# Altium footprint library PCB - CONNECTOR - HARWIN - HARWIN M20-7831345.PcbLib: 1 footprints
Each footprint in its own frame and in the unit in brackets; x right, y up, seen from the top. Pads: shape width x height; smd on the part's side, far side on the other; paste and mask are expansions set on the pad; w line width, h text height; cw(c..) or ccw(c..) is an arc to the next point about the centre after c.
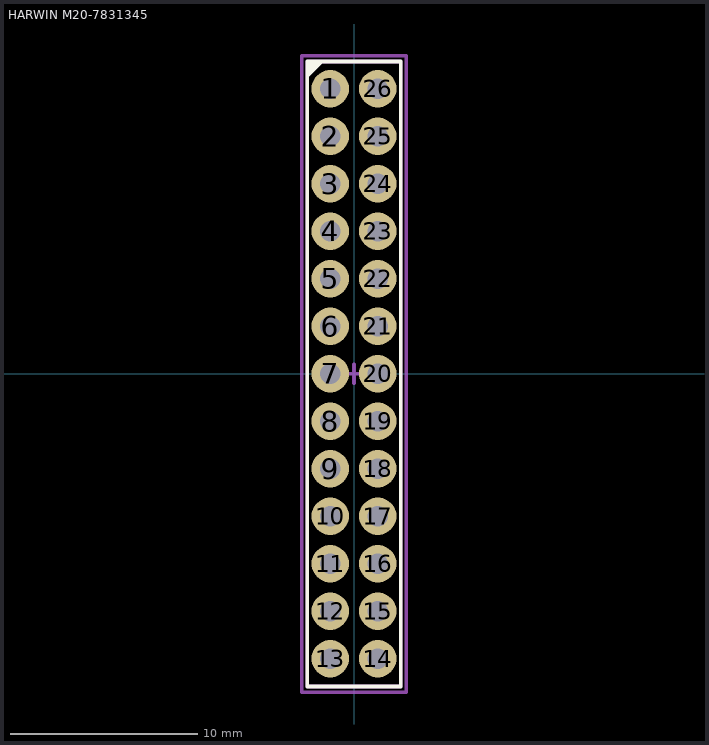
[diagram p0: the footprint, top view; thin cyan lines are the x and y axes]

## HARWIN M20-7831345 [mm] "2.54mm DIL PC TAIL PIN HEADER ASSEMBLY"
height 5
pads (26):
  round 2 hole 1.1: 1(-1.27,15.24) 2(-1.27,12.7) 3(-1.27,10.16) 4(-1.27,7.62) 5(-1.27,5.08) 6(-1.27,2.54) 7(-1.27,0) 8(-1.27,-2.54) 9(-1.27,-5.08) 10(-1.27,-7.62) 11(-1.27,-10.16) 12(-1.27,-12.7) 13(-1.27,-15.24) 14(1.27,-15.24) 15(1.27,-12.7) 16(1.27,-10.16) 17(1.27,-7.62) 18(1.27,-5.08) 19(1.27,-2.54) 20(1.27,0) 21(1.27,2.54) 22(1.27,5.08) 23(1.27,7.62) 24(1.27,10.16) 25(1.27,12.7) 26(1.27,15.24)
Top Overlay:
  region: -2.5,16.7 -2.5,15.8 -1.6,16.7
  lines w0.2: -2.5,-16.73 -2.5,16.7 2.5,16.7 2.5,-16.73 -2.5,-16.73
Top Assembly:
  lines w0.2: -0.5,0 0.5,0 ; 0,-0.5 0,0.5 ; -2.5,-16.73 -2.5,16.7 2.5,16.7 2.5,-16.73 -2.5,-16.73
Top Courtyard (Mech15):
  lines w0.2: -2.8,-17.03 -2.8,17 2.8,17 2.8,-17.03 -2.8,-17.03
3D body "M20-7831342.step": height 8.5, standoff -3, extent -2.52,-16.71 2.52,16.71